# EAGLE library part SUSBFET_SL127L6TH (library MSP-EXPG2_Rev.1.3)
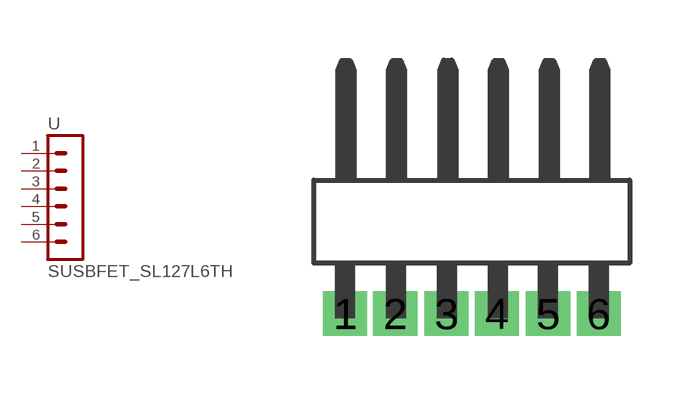
[diagram p0: symbol with the pads of SUSBFET_SL127L6_MPE; footprint SUSBFET_SL127L6_MPE]

Designator prefix -

## SUSBFET_SL127L6TH  [SUSBFET_SL127L6_MPE]
1  1  pas
2  2  pas
3  3  pas
4  4  pas
5  5  pas
6  6  pas

## Footprint SUSBFET_SL127L6_MPE (pad centres in mm)
drill 0.6 pad 0.889 square: 1 -3.17,0.07; 2 -1.91,0.07; 3 -0.63,0.07; 4 0.63,0.07; 5 1.91,0.07; 6 3.18,0.07